# Altium footprint library ESP32 Platform.PcbLib: 36 footprints (part 3 of 3)
Each footprint in its own frame and in the unit in brackets; x right, y up, seen from the top. Pads: shape width x height; smd on the part's side, far side on the other; paste and mask are expansions set on the pad; w line width, h text height; cw(c..) or ccw(c..) is an arc to the next point about the centre after c.
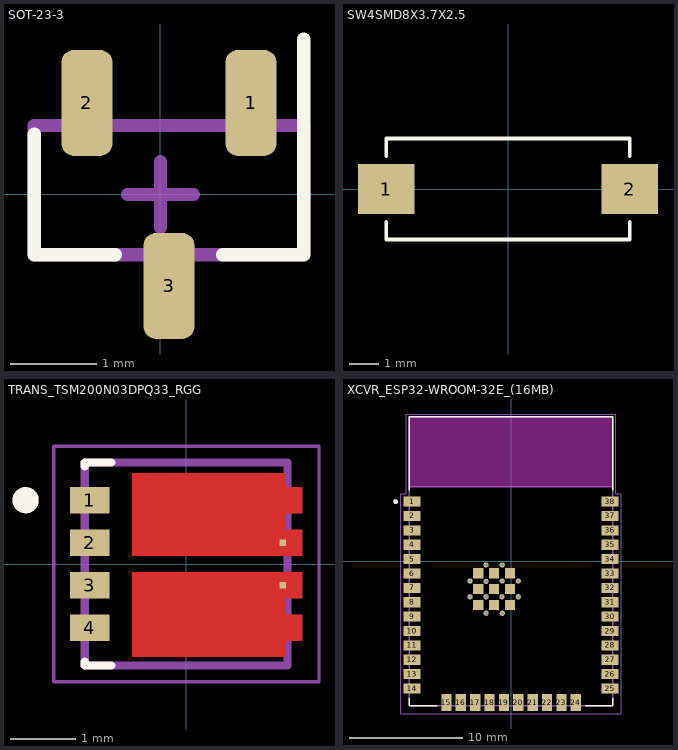
[diagram p2: the footprints below, top view; thin cyan lines are the x and y axes]

## SOT-23-3 [mm]
pads (3):
  rrect50% 0.59x1.23 smd: 1(1.05,1.06) 2(-0.85,1.06) 3(0.1,-1.06)
Top Overlay:
  lines w0.152: -1.46,0.7 -1.46,-0.7 -0.52,-0.7 ; 0.72,-0.7 1.66,-0.7 1.66,1.8
Bottom Assembly:
  circle w0.254: c1.05,1.06 r0.025
  lines w0.152: -1.46,-0.7 -1.46,0.8 1.66,0.8 1.66,-0.7 -1.46,-0.7
  text ".Designator" at -3.174,-0.212 h0.64
Mechanical 15:
  lines w0.152: -0.381,0 0.381,0 ; 0,-0.381 0,0.381
3D body "MAX810TEUR+T.STEP": height 1.12, standoff 0, extent -1.36,-1.175 1.56,1.175

## SW4SMD8X3.7X2.5 [mm]
pads (2):
  rect 1.9x1.7 smd: 1(-4.1,0) 2(4.1,0)
Top Overlay:
  lines w0.127: -4.1,-1.1 -4.1,-1.7 4.1,-1.7 4.1,-1.1 ; -4.1,1.1 -4.1,1.7 4.1,1.7 4.1,1.1

## TRANS_TSM200N03DPQ33_RGG [mm]
height 0.8
pads (6):
  rect 0.6x0.4 smd: 1(-1.475,0.975) 2(-1.475,0.325) 3(-1.475,-0.325) 4(-1.475,-0.975)
  rect 0.1x0.1 smd paste-1 mask+0: 5_6(1.475,-0.325) 7_8(1.475,0.325)
Top Layer:
  region: 1.525,1.175 1.775,1.175 1.775,0.775 1.525,0.775 1.525,0.525 1.775,0.525 1.775,0.125 -0.825,0.125 -0.825,1.385 1.525,1.385
  region: 1.775,-0.525 1.525,-0.525 1.525,-0.775 1.775,-0.775 1.775,-1.175 1.525,-1.175 1.525,-1.415 -0.825,-1.415 -0.825,-0.125 1.775,-0.125
Top Overlay:
  circle w0.2: c-2.455,0.975 r0.1
  lines w0.127: -1.55,-1.495 -1.55,-1.55 -1.145,-1.55 ; -1.55,1.495 -1.55,1.55 -1.145,1.55
Top Paste:
  region: 1.78,0.77 1.53,0.77 1.53,1.18 1.78,1.18
  region: 1.78,0.12 1.53,0.12 1.53,0.53 1.78,0.53
  region: 1.78,-0.53 1.53,-0.53 1.53,-0.12 1.78,-0.12
  region: 1.78,-1.18 1.53,-1.18 1.53,-0.77 1.78,-0.77
  region: 0.25,0.42 -0.63,0.42 -0.63,1.09 0.25,1.09
  region: 1.33,0.42 0.45,0.42 0.45,1.09 1.33,1.09
  region: 0.25,-1.115 -0.63,-1.115 -0.63,-0.425 0.25,-0.425
  region: 1.33,-1.115 0.45,-1.115 0.45,-0.425 1.33,-0.425
Top Solder:
  region: 1.625,1.275 1.875,1.275 1.875,0.675 1.625,0.675 1.625,0.625 1.875,0.625 1.875,0.025 -0.925,0.025 -0.925,1.485 1.625,1.485
  region: 1.875,-0.625 1.625,-0.625 1.625,-0.675 1.875,-0.675 1.875,-1.275 1.625,-1.275 1.625,-1.515 -0.925,-1.515 -0.925,0.076 1.875,0.076
Mechanical 13:
  circle w0.2: c-2.455,0.975 r0.1
  lines w0.127: -1.55,-1.55 -1.55,1.55 1.55,1.55 1.55,-1.55 -1.55,-1.55
Mechanical 15:
  lines w0.05: -2.025,-1.8 -2.025,1.8 2.03,1.8 2.03,-1.8 -2.025,-1.8
3D body "step_temp.STEP": height 0.8, standoff 0, extent -1.675,-1.65 1.675,1.65

## XCVR_ESP32-WROOM-32E_(16MB) [mm]
height 3.25
pads (59):
  rect 1.5x0.9 smd: 1(-8.75,5.26) 2(-8.75,3.99) 3(-8.75,2.72) 4(-8.75,1.45) 5(-8.75,0.18) 6(-8.75,-1.09) 7(-8.75,-2.36) 8(-8.75,-3.63) 9(-8.75,-4.9) 10(-8.75,-6.17) 11(-8.75,-7.44) 12(-8.75,-8.71) 13(-8.75,-9.98) 14(-8.75,-11.25) 25(8.75,-11.25) 26(8.75,-9.98) 27(8.75,-8.71) 28(8.75,-7.44) 29(8.75,-6.17) 30(8.75,-4.9) 31(8.75,-3.63) 32(8.75,-2.36) 33(8.75,-1.09) 34(8.75,0.18) 35(8.75,1.45) 36(8.75,2.72) 37(8.75,3.99) 38(8.75,5.26)
  rect 0.9x1.5 smd: 15(-5.715,-12.5) 16(-4.445,-12.5) 17(-3.175,-12.5) 18(-1.905,-12.5) 19(-0.635,-12.5) 20(0.635,-12.5) 21(1.905,-12.5) 22(3.175,-12.5) 23(4.445,-12.5) 24(5.715,-12.5)
  round 0.46 hole 0.3 mask+0: 39_1(-3.632,-3.15) 39_1(-3.632,-1.753) 39_1(-2.21,-4.597) 39_1(-2.21,-3.15) 39_1(-2.21,-1.778) 39_1(-2.21,-0.33) 39_1(-0.813,-3.15) 39_1(-0.787,-4.597) 39_1(-0.787,-1.753) 39_1(-0.787,-0.33) 39_1(0.635,-3.15) 39_1(0.635,-1.753)
  rect 0.9x0.9 smd: 39_1(-2.9,-1.06) 39_2(-1.5,-1.06) 39_3(-0.1,-1.06) 39_4(-2.9,-2.46) 39_5(-1.5,-2.46) 39_6(-0.1,-2.46) 39_7(-2.9,-3.86) 39_8(-1.5,-3.86) 39_9(-0.1,-3.86)
Top Overlay:
  circle w0.2: c-10.2,5.26 r0.1
  lines w0.127: -9,-12.1 -9,-12.75 -6.55,-12.75 ; -9,6.25 -9,12.75 9,12.75 9,6.25 ; 6.55,-12.75 9,-12.75 9,-12.1
Keep-Out Layer:
  region: 9,6.56 -9,6.56 -9,12.75 9,12.75
Mechanical 13:
  circle w0.2: c-10.2,5.26 r0.1
  lines w0.127: -9,6.56 -9,-12.75 9,-12.75 9,6.56 ; -9,6.56 -9,12.75 9,12.75 9,6.56 ; -9,6.56 9,6.56
  text "ANTENNA" at -6,9 h1.78
Mechanical 15:
  lines w0.05: -9.75,-13.5 9.75,-13.5 9.75,5.96 9.25,5.96 9.25,13 -9.25,13 -9.25,5.96 -9.75,5.96 -9.75,-13.5
3D body "step_temp.STEP": height 3.25, standoff 0, extent -9,-12.75 9,12.75